# Altium schematic symbol library Schlib1.SchLib: 63 symbols (part 1 of 2)
Pins are listed as number, name and electrical type; pins without a type are passive.

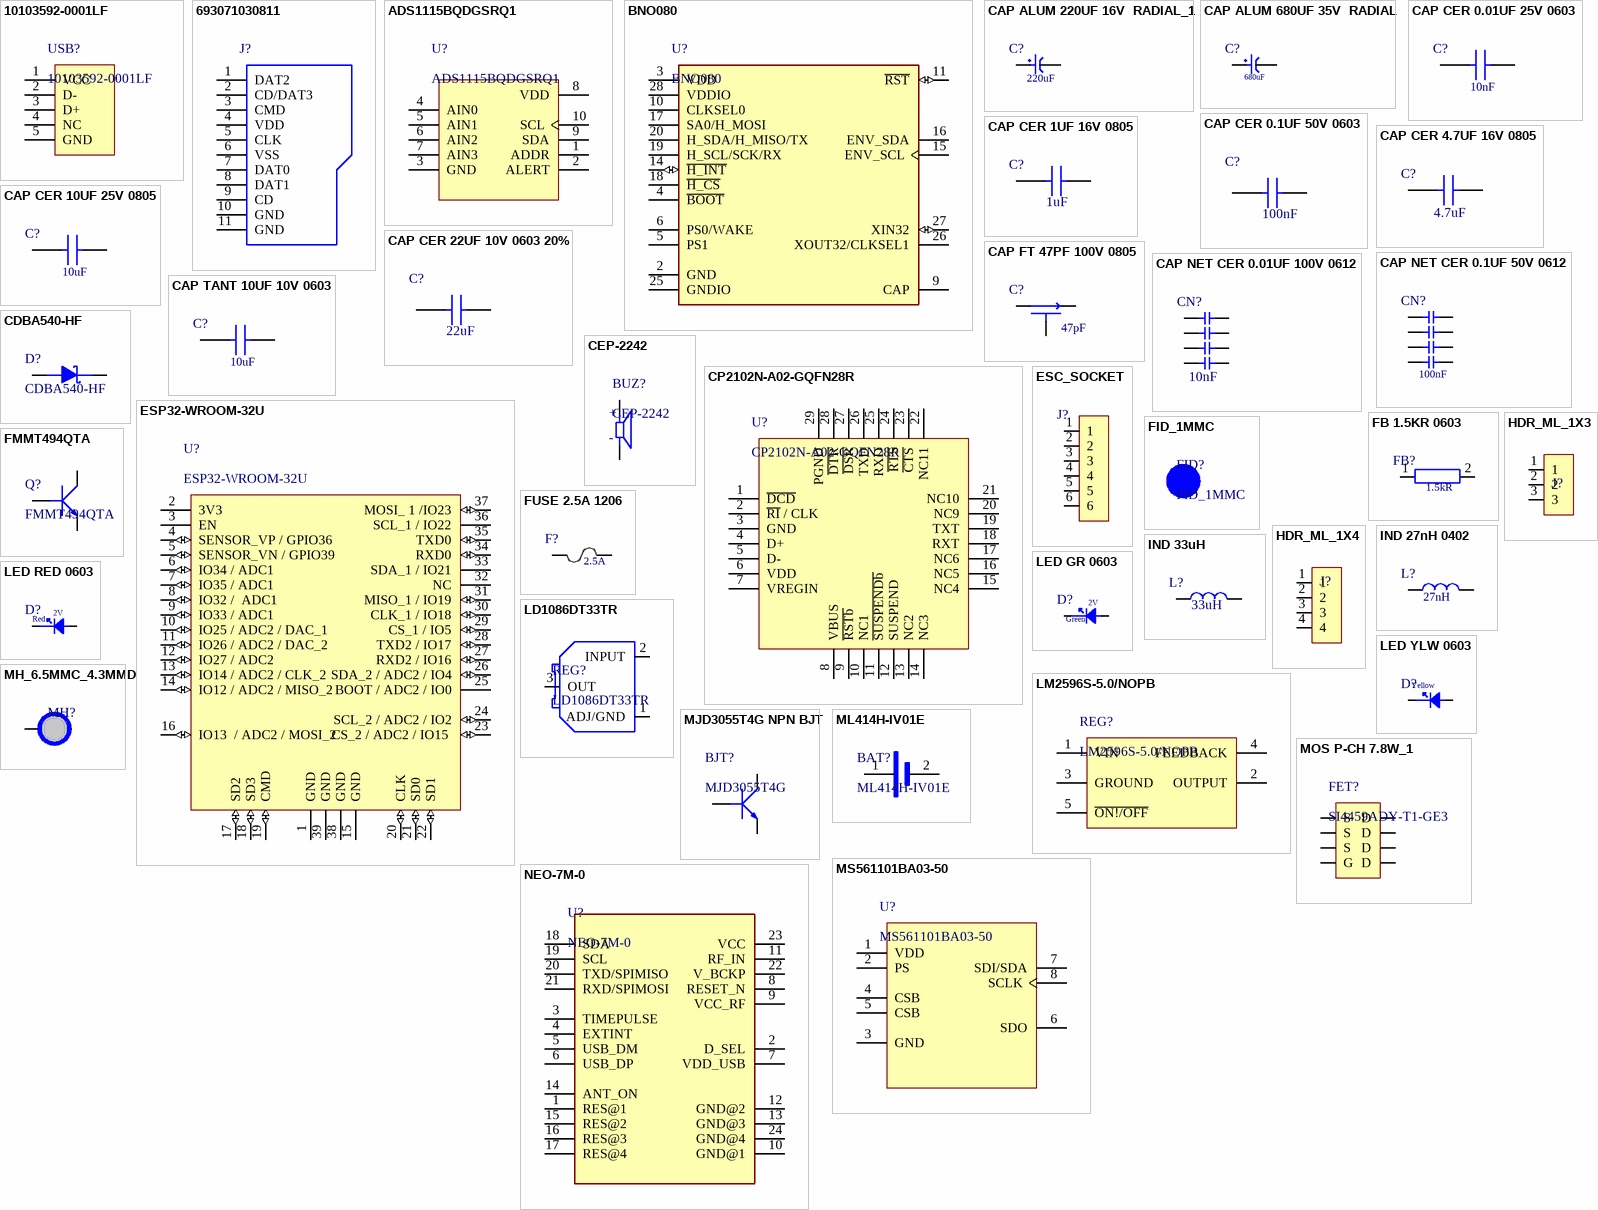
[diagram p0: symbols 10103592-0001LF to NEO-7M-0]

## 10103592-0001LF
designator USB?
CONN USB MICRO B RECPT SMT R/A; Manufacturer: ICC; Supplier 1: Digi-Key; Manufacturer Part Number: 10103592-0001LF; RoHS: No; Category: USB Connectors; Stock 1: 48303; Pricing 1: 1=0.76000, 10=0.66700, 25=0.62720, 50=0.60120, 100=0.57510, 250=0.52276, 500=0.47050 (USD); Supplier Part Number 1: 609-4048-1-ND; Weight: 0.31
footprint 10103592-0001LF
pins: 1 VCC, 2 D-, 3 D+, 4 NC, 5 GND

## 693071030811
designator J?  (value not drawn)
9 (8 + 1) Position Card Connector Secure Digital - microSD™ Surface Mount, Right Angle Gold; Manufacturer: Wurth Electronics; Supplier 1: Digi-Key; Manufacturer Part Number: 693071030811; RoHS: No; Stock 1: 1403; Pricing 1: 1=3.76000, 25=3.33400, 100=3.07700, 250=2.81900 (USD); Supplier Part Number 1: 732-693071030811CT-ND; ComponentLink1Description: Datasheet; ComponentLink1URL: https://www.we-online.com/catalog/datasheet/693071030811.pdf; Weight: 0.516
footprint 693071030811
pins: 1 DAT2, 2 CD/DAT3, 3 CMD, 4 VDD, 5 CLK, 6 VSS, 7 DAT0, 8 DAT1, 9 CD, 10 GND, 11 GND

## ADS1115BQDGSRQ1
designator U?  (no BOM)
TEXAS INSTRUMENTS - ADS1115BQDGSRQ1 . - ADC, DELTA-SIGMA, 16BIT, 860SPS, VSSOP; Interface: I2C; Number of Inputs: 4; Number of Bits: 16; Sampling Rate: 860S/s; Number of A/D Converters: 1; Supplier 1: Digi-Key; Manufacturer: Texas Instruments; Manufacturer Part Number: ADS1115BQDGSRQ1; RoHS: Yes; Category: Analog to Digital Converters (ADCs); Stock 1: 2048; Pricing 1: 1=6.74000, 10=6.05500, 25=5.72400, 100=4.96080, 250=4.70640, 500=4.22304, 1000=4.00800 (USD); Case/Package: VSSOP; Min Operating Temperature: -40°C; Max Operating Temperature: 125°C; Packaging: Cut Tape; RoHS Compliant: Yes; ComponentLink1URL: http://www.ti.com/lit/ds/symlink/ads1113-q1.pdf?src-supplier=Digi-Key; ComponentLink1Description: http://www.ti.com/lit/ds/symlink/ads1113-q1.pdf?src-supplier=Digi-Key; ComponentLink2URL: http://www.ti.com/general/docs/lit/getliterature.tsp?genericPartNumber=ADS1115-Q1&fileType=pdf&src-supplier=Farnell; ComponentLink2Description: http://www.ti.com/general/docs/lit/getliterature.tsp?genericPartNumber=ADS1115-Q1&fileType=pdf&src-supplier=Farnell; Supplier Part Number 1: 296-45221-1-ND; Weight: 0.02
footprint ADS1115BQDGSRQ1
pins: 1 ADDR (power), 2 ALERT (power), 3 GND (power), 4 AIN0 (power), 5 AIN1 (power), 6 AIN2 (power), 7 AIN3 (power), 8 VDD (power), 9 SDA (power), 10 SCL (power)

## BNO080
designator U?  (no BOM)
IMU ACCEL/GYRO/MAG I2C 32BIT; Manufacturer: Hillcrest Laboratories; Sensor Type: Accelerometer,Gyroscope,Magnetometer; Output Type: SPI,I2C; Supplier 1: Digi-Key; Manufacturer Part Number: BNO080; RoHS: No; Category: Inertial Measurement Units (IMUs); Mount: Surface Mount; Case/Package: LGA; Min Operating Temperature: -40°C; Max Operating Temperature: 85°C; Packaging: Tape and Reel; ComponentLink1URL: http://www.hillcrestlabs.com/download/5a05f340566d07c196001ec1?src-supplier=Digi-Key; ComponentLink1Description: http://www.hillcrestlabs.com/download/5a05f340566d07c196001ec1?src-supplier=Digi-Key; Supplier Part Number 1: 1888-1000-1-ND; Weight: 0.02; ComponentLink2Description: Datasheet; ComponentLink2URL: https://cdn.sparkfun.com/assets/1/3/4/5/9/BNO080_Datasheet_v1.3.pdf
footprint BNO080
pins: 2 GND (power), 3 VDD (power), 4 ~{BOOT} (power), 5 PS1 (power), 6 PS0/WAKE (power), 9 CAP (power), 10 CLKSEL0 (power), 11 ~{RST} (io), 14 ~{H_INT} (io), 15 ENV_SCL (power), 16 ENV_SDA (power), 17 SA0/H_MOSI (power), 18 ~{H_CS} (power), 19 H_SCL/SCK/RX (power), 20 H_SDA/H_MISO/TX (power), 25 GNDIO (power), 26 XOUT32/CLKSEL1 (power), 27 XIN32 (io), 28 VDDIO (power)

## CAP ALUM 220UF 16V  RADIAL_1
designator C?, comment Capacitance: 220uF  (hidden comment: ESH227M016AE3AA)
Capacitor;  Al Electrolytic;  Cap 220 uF;  Tol 20%;  Vol-Rtg 16 VDC;  Radial;  6x11 mm; Manufacturer: KEMET; Dielectric Material: Aluminium; Voltage Rating: 16V; Ripple Current: 235mA; Leakage Current: 35.2uA; Life (Hours): 2000Hour; Dissipation Factor: 18%; Lead Diameter: 0.5mm; Lead Length: 20mm; Supplier 1: Digi-Key; Manufacturer Part Number: ESH227M016AE3AA; RoHS: Yes; Category: Aluminum Electrolytic Capacitors; Stock 1: 8987; Pricing 1: 1=0.26000, 10=0.17700, 50=0.11780, 100=0.10010, 500=0.07066, 1000=0.06182, 2500=0.05888, 5000=0.05446 (USD); Mount: Through Hole,PCB; Case/Package: Radial; Min Operating Temperature: -40°C; Max Operating Temperature: 105°C; Package Quantity: 10000; Packaging: Bulk; Tolerance: 20%; Voltage Rating (DC): 16V; Termination: Radial; Voltage: 16V; Features: General Purpose; Series: ESH; Diameter: 6.3mm; Length: 11mm; Height: 11mm; Lead Pitch: 0.098inch; Height - Seated (Max): 0.492inch; RoHS Compliant: Yes; ComponentLink1URL: https://datasheet.ciiva.com/14587/70233271-14587391.pdf?src-supplier=Allied+Electronics; ComponentLink1Description: https://datasheet.ciiva.com/14587/70233271-14587391.pdf?src-supplier=Allied+Electronics; Supplier Part Number 1: 399-6566-ND; Weight: 0.6
footprint CAP ALI 6.30MM RADIAL
pins: 1, 2

## CAP ALUM 680UF 35V  RADIAL
designator C?, comment Capacitance: 680uF  (hidden comment: EEU-FR1V681)
CAP ALUM 680UF 20% 35V RADIAL; Manufacturer: Panasonic; Ripple Current: 2.18A; Impedance: 20mR; Life (Hours): 10000Hour; Lead/Base Style: Straight; Leakage Current: 3uA; Lead Diameter: 0.6mm; Supplier 1: Digi-Key; Manufacturer Part Number: EEU-FR1V681; RoHS: Yes; Category: Aluminum Electrolytic Capacitors; Stock 1: 13043; Pricing 1: 1=1.09000, 10=0.82700, 50=0.68680, 100=0.59140, 500=0.45788, 1000=0.39429, 2500=0.36885, 5000=0.34977 (USD); Mount: Through Hole; Case/Package: Radial; Number of Pins: 2; Contact Plating: Tin; Min Operating Temperature: -40°C; Max Operating Temperature: 105°C; Tolerance: 20%; Termination: Radial; Voltage Rating: 35V; Packaging: Bulk; Package Quantity: 200; Voltage Rating (DC): 35V; ESR (Equivalent Series Resistance): 20mR; Series: FR; Ripple Current (AC): 2.18A; Voltage: 35V; Construction: RADIAL; Diameter: 10mm; Length: 20mm; Height: 20mm; Lead Pitch: 5mm; Height - Seated (Max): 0.866inch; Radiation Hardening: No; REACH SVHC: Unknown; RoHS Compliant: Yes; ComponentLink1URL: https://datasheet.ciiva.com/11780/0900766b80e4e9bf-11780986.pdf?src-supplier=RSComponents; ComponentLink1Description: https://datasheet.ciiva.com/11780/0900766b80e4e9bf-11780986.pdf?src-supplier=RSComponents; ComponentLink2URL: https://datasheet.ciiva.com/11677/aba0000ce132-11677717.pdf?src-supplier=Avnet; ComponentLink2Description: https://datasheet.ciiva.com/11677/aba0000ce132-11677717.pdf?src-supplier=Avnet; ComponentLink3URL: https://datasheet.ciiva.com/14602/70257620-14602587.pdf?src-supplier=Allied+Electronics; ComponentLink3Description: https://datasheet.ciiva.com/14602/70257620-14602587.pdf?src-supplier=Allied+Electronics; ComponentLink4URL: https://datasheet.ciiva.com/30145/9aba0000ce132-30145388.pdf?src-supplier=Onlinecomponents.com; ComponentLink4Description: https://datasheet.ciiva.com/30145/9aba0000ce132-30145388.pdf?src-supplier=Onlinecomponents.com; ComponentLink5URL: https://datasheet.ciiva.com/17531/aba0000ce132-17531901.pdf?src-supplier=Avnet+Europe; ComponentLink5Description: https://datasheet.ciiva.com/17531/aba0000ce132-17531901.pdf?src-supplier=Avnet+Europe; Supplier Part Number 1: P14514-ND; Weight: 2.5
footprint CAP ALI 10MM RADIAL
pins: 1, 2

## CAP CER 0.01UF 25V 0603
designator C?, comment Capacitance: 10nF  (hidden comment: C0603C103M3RACTU)
CAP CER 10000PF 25V X7R 0603; Manufacturer: KEMET; Dielectric Material: Ceramic; Tolerance: 20%; Dissipation Factor: 3.5%; Supplier 1: Digi-Key; Manufacturer Part Number: C0603C103M3RACTU; RoHS: Yes; Category: Ceramic Capacitors; Stock 1: 64018; Pricing 1: 1=0.10000, 10=0.07100, 50=0.03860, 100=0.03160, 500=0.02254, 1000=0.01771 (USD); Mount: Surface Mount; Case/Package: 0603; Case Code (Metric): 1608; Case Code (Imperial): 0603; Min Operating Temperature: -55°C; Max Operating Temperature: 125°C; Packaging: Tape and Reel; Voltage Rating (DC): 25V; Dielectric: X7R; Package Quantity: 1; Voltage Rating: 25V; Termination: SMD/SMT; Series: C; Construction: Flat; Length: 1.6mm; Width: 0.031inch; Height: 0.8mm; Depth: 0.8mm; Thickness: 0.034inch; Lead Pitch: 0.7mm; Radiation Hardening: No; RoHS Compliant: Yes; ComponentLink1URL: https://datasheet.ciiva.com/5415/kem-c1002-x7r-smd-357932-5415863.pdf?src-supplier=Mouser; ComponentLink1Description: https://datasheet.ciiva.com/5415/kem-c1002-x7r-smd-357932-5415863.pdf?src-supplier=Mouser; ComponentLink2URL: https://datasheet.ciiva.com/49516/1564924-49516524.pdf?src-supplier=Jameco; ComponentLink2Description: https://datasheet.ciiva.com/49516/1564924-49516524.pdf?src-supplier=Jameco; Supplier Part Number 1: 399-8989-1-ND
footprint CAP CER 0603
pins: 1, 2

## CAP CER 0.1UF 50V 0603
designator C?, comment Capacitance: 100nF  (hidden comment: C0603C104K5RAC7082)
Cap Cer 0.1uF 50V 0603 10%; Manufacturer: KEMET; Dielectric Material: Ceramic; Dielectric: X7R; DesignedBy: ENES MERCAN; Supplier 1: Digi-Key; Manufacturer Part Number: C0603C104K5RAC7082; RoHS: Yes; Category: Ceramic Capacitors; Stock 1: 44787; Pricing 1: 1=0.12000, 10=0.08900, 50=0.04840, 100=0.03940, 500=0.02818, 1000=0.02214, 2500=0.02012, 5000=0.01852 (USD); Case/Package: 0603; Voltage Rating (DC): 50V; Tolerance: 10%; RoHS Compliant: Yes; Supplier Part Number 1: 399-C0603C104K5RAC7082CT-ND; Weight: 0.063
footprint CAP CER 0603
pins: 1, 2

## CAP CER 1UF 16V 0805
designator C?, comment Capacitance: 1uF  (hidden comment: CL21B105KOFNFNE)
CAP CER 1UF 16V X7R 0805; Manufacturer: Samsung; Tolerance: 10%; Supplier 1: Digi-Key; Manufacturer Part Number: CL21B105KOFNFNE; RoHS: Yes; Category: Ceramic Capacitors; Stock 1: 73789; Pricing 1: 1=0.12000, 10=0.08900, 50=0.04840, 100=0.03940, 500=0.02818, 1000=0.02214 (USD); Mount: Surface Mount; Case/Package: 0805; Case Code (Metric): 2012; Case Code (Imperial): 0805; Contact Plating: Tin; Min Operating Temperature: -55°C; Max Operating Temperature: 125°C; Package Quantity: 1; Packaging: Tape and Reel; Voltage Rating: 16V; Dielectric: X7R; Termination: Wraparound; Series: CL; Construction: Flat; Length: 0.079inch; Width: 0.049inch; Thickness: 0.053inch; RoHS Compliant: Yes; ComponentLink1URL: https://datasheet.ciiva.com/25713/cl21b105kofnfne-25713075.pdf?src-supplier=Digi-Key; ComponentLink1Description: https://datasheet.ciiva.com/25713/cl21b105kofnfne-25713075.pdf?src-supplier=Digi-Key; Supplier Part Number 1: 1276-2930-1-ND
footprint CAP CER 0805
pins: 1, 2

## CAP CER 4.7UF 16V 0805
designator C?, comment Capacitance: 4.7uF  (hidden comment: CL21B475KOFNNNE)
SAMSUNG ELECTRO-MECHANICS - CL21B475KOFNNNE - SMD Multilayer Ceramic Capacitor, 4.7 µF, 16 V, 0805 [2012 Metric], ± 10%, X7R, CL Series; Voltage Rating: 16V; Supplier 1: Digi-Key; Manufacturer: Samsung; Manufacturer Part Number: CL21B475KOFNNNE; RoHS: Yes; Category: Ceramic Capacitors; Stock 1: 815877; Pricing 1: 1=0.28000, 10=0.19400, 50=0.12960, 100=0.11020, 500=0.07778, 1000=0.06805 (USD); Mount: Surface Mount; Case/Package: 0805; Case Code (Metric): 2012; Case Code (Imperial): 0805; Min Operating Temperature: -55°C; Max Operating Temperature: 125°C; Package Quantity: 2000; Packaging: Tape and Reel; Tolerance: 10%; Dielectric: X7R; Series: CL; Construction: Flat; Voltage Rating (DC): 16V; Length: 2mm; Width: 0.049inch; Height: 1.25mm; Thickness: 0.053inch; Depth: 1.25mm; Radiation Hardening: No; Lead Free: Lead Free; RoHS Compliant: Yes; ComponentLink1URL: https://datasheet.ciiva.com/15216/getdatasheetpartid-357405-15216237.pdf?src-supplier=Verical; ComponentLink1Description: https://datasheet.ciiva.com/15216/getdatasheetpartid-357405-15216237.pdf?src-supplier=Verical; Supplier Part Number 1: 1276-2873-1-ND; Weight: 0.0064
footprint CAP CER 0805
pins: 1, 2

## CAP CER 10UF 25V 0805
designator C?, comment Capacitance: 10uF  (hidden comment: GRM21BR61E106MA73L)
MURATA - GRM21BR61E106MA73L - SMD Multilayer Ceramic Capacitor, 10 µF, 25 V, 0805 [2012 Metric], ± 20%, X5R, GRM Series; Voltage Rating: 25V; Supplier 1: Digi-Key; Manufacturer: Murata; Manufacturer Part Number: GRM21BR61E106MA73L; RoHS: Yes; Category: Ceramic Capacitors; Stock 1: 318119; Pricing 1: 1=0.26000, 10=0.17900, 50=0.11960, 100=0.10170, 500=0.07176, 1000=0.06279 (USD); Mount: Surface Mount; Case/Package: 0805; Case Code (Metric): 2012; Case Code (Imperial): 0805; Weight: 0.000335oz; Min Operating Temperature: -55°C; Max Operating Temperature: 85°C; Tolerance: 20%; Packaging: Tape and Reel; Dielectric: X5R; Termination: SMD/SMT; Resistor Type: Ceramic; Voltage Rating (DC): 25V; Package Quantity: 3000; Length: 2mm; Width: 0.049inch; Height: 1.25mm; Thickness: 0.055inch; Depth: 1.25mm; REACH SVHC: No SVHC; Lead Free: Lead Free; RoHS Compliant: Yes; ComponentLink1URL: http://www.farnell.com/datasheets/2079185.pdf?src-supplier=Farnell; ComponentLink1Description: http://www.farnell.com/datasheets/2079185.pdf?src-supplier=Farnell; ComponentLink2URL: http://www.mouser.com/ds/2/281/c02e-2905.pdf?src-supplier=Mouser; ComponentLink2Description: http://www.mouser.com/ds/2/281/c02e-2905.pdf?src-supplier=Mouser; ComponentLink3URL: http://components.arrow.com/part/dataview/0323_03061623?src-supplier=Arrow+Europe; ComponentLink3Description: http://components.arrow.com/part/dataview/0323_03061623?src-supplier=Arrow+Europe; ComponentLink4URL: https://search.murata.co.jp/Ceramy/image/img/A01X/G101/ENG/GRM21BR61E106MA73-01.pdf?src-supplier=Digi-Key; ComponentLink4Description: https://search.murata.co.jp/Ceramy/image/img/A01X/G101/ENG/GRM21BR61E106MA73-01.pdf?src-supplier=Digi-Key; ComponentLink5URL: http://www.farnell.com/datasheets/2079185.pdf?src-supplier=Element14; ComponentLink5Description: http://www.farnell.com/datasheets/2079185.pdf?src-supplier=Element14; Supplier Part Number 1: 490-10748-1-ND
footprint CAP CER 0805
pins: 1, 2

## CAP CER 22UF 10V 0603 20%
designator C?, comment Capacitance: 22uF  (hidden comment: GRM187R61A226ME15D)
CAP CER 22UF 10V X5R 0603; Manufacturer: Murata; Tolerance: 20%; DesignedBy: ENES MERCAN; Supplier 1: Digi-Key; Manufacturer Part Number: GRM187R61A226ME15D; RoHS: Yes; Category: Ceramic Capacitors; Stock 1: 622351; Pricing 1: 1=0.54000, 10=0.38100, 50=0.28840, 100=0.25120, 500=0.18608, 1000=0.15816 (USD); Mount: Surface Mount; Case/Package: 0603; Case Code (Metric): 1608; Case Code (Imperial): 0603; Min Operating Temperature: -55°C; Max Operating Temperature: 85°C; Packaging: Tape and Reel; Voltage Rating: 10V; Voltage Rating (DC): 10V; Dielectric: X5R; Length: 0.063inch; Width: 0.031inch; Thickness: 0.031inch; RoHS Compliant: Yes; ComponentLink1URL: http://search.murata.co.jp/Ceramy/image/img/A01X/G101/ENG/GRM187R61A226ME15-01.pdf?src-supplier=Digi-Key; ComponentLink1Description: http://search.murata.co.jp/Ceramy/image/img/A01X/G101/ENG/GRM187R61A226ME15-01.pdf?src-supplier=Digi-Key; Supplier Part Number 1: 490-13243-1-ND; Weight: 0.0063
footprint CAP CER 0603
pins: 1, 2

## CAP FT 47PF 100V 0805
designator C?, comment Capacitance: 47pF  (hidden comment: W2F11A4708AT1A)
CAP FEEDTHRU 47PF 100V 0805; Manufacturer: Kyocera AVX; Dielectric Material: Ceramic; Tolerance: 50%; Dielectric: C0G; Current Rating: 300mA; DC Resistance (DCR): 600mR; Insulation Resistance: 1GR; Supplier 1: Digi-Key; Manufacturer Part Number: W2F11A4708AT1A; RoHS: Yes; Category: Ceramic Capacitors; Stock 1: 19900; Pricing 1: 1=0.46000, 10=0.32200, 50=0.24380, 100=0.21240, 500=0.15730, 1000=0.13370 (USD); Mount: Surface Mount; Case/Package: 0805; Number of Pins: 4; Case Code (Metric): 2012; Case Code (Imperial): 0805; Min Operating Temperature: -55°C; Max Operating Temperature: 125°C; Voltage Rating: 100V; Package Quantity: 4000; Packaging: Tape and Reel; Voltage Rating (DC): 100V; Voltage: 100V; Current: 300mA; Termination: SMD/SMT; Series: W2F; Construction: Flat; Length: 2.01mm; Width: 0.049inch; Height: 0.045inch; Depth: 1.25mm; Radiation Hardening: No; Lead Free: Lead Free; RoHS Compliant: Yes; ComponentLink1URL: https://datasheet.ciiva.com/1011/w2fw3f-1011555.pdf?src-supplier=Digi-Key; ComponentLink1Description: https://datasheet.ciiva.com/1011/w2fw3f-1011555.pdf?src-supplier=Digi-Key; ComponentLink2URL: https://datasheet.ciiva.com/17490/w2fw3f-17490408.pdf?src-supplier=Avnet+Europe; ComponentLink2Description: https://datasheet.ciiva.com/17490/w2fw3f-17490408.pdf?src-supplier=Avnet+Europe; ComponentLink3URL: https://datasheet.ciiva.com/4932/w2fw3f-4932074.pdf?src-supplier=Mouser; ComponentLink3Description: https://datasheet.ciiva.com/4932/w2fw3f-4932074.pdf?src-supplier=Mouser; ComponentLink4URL: https://datasheet.ciiva.com/11516/w2fw3f-11516952.pdf?src-supplier=Avnet; ComponentLink4Description: https://datasheet.ciiva.com/11516/w2fw3f-11516952.pdf?src-supplier=Avnet; Supplier Part Number 1: 478-12987-1-ND
footprint CAP FEEDTRU 0805
pins: 1, 2, 3

## CAP NET CER 0.1UF 50V 0612
designator CN?, comment Capacitance: 100nF  (hidden comment: CA064C104M4RAC7800)
Cap Ceramic Array 0.1uF 16V X7R 10% 0612 SMD 4 Capacitor 125C Plastic T/R; Manufacturer: KEMET; Number of Terminals/Pins: 8; Number of Capacitors: 4; Circuit Type: Isolated; Tolerance: 20%; Supplier 1: Digi-Key; Manufacturer Part Number: CA064C104M4RAC7800; RoHS: Yes; Category: Uncategorized; Stock 1: 44013; Pricing 1: 1=0.40000, 10=0.27500, 50=0.19240, 100=0.16500, 500=0.12376, 1000=0.10450 (USD); Mount: Surface Mount; Case/Package: 0612; Case Code (Imperial): 0612; Dielectric Material: Ceramic; Case Code (Metric): 1632; Min Operating Temperature: -55°C; Max Operating Temperature: 125°C; Resistor Type: Ceramic; Dielectric: X7R; Package Quantity: 1; Voltage Rating: 16V; Packaging: Tape and Reel; Length: 0.063inch; Width: 0.126inch; Height - Seated (Max): 0.035inch; Depth: 3.2mm; Terminal Pitch: 0.8mm; ComponentLink1URL: https://media.digikey.com/pdf/Data%20Sheets/Kemet%20PDFs/X7R_Dielectric_10-200V_Rev_Nov2013.pdf?src-supplier=Digi-Key; ComponentLink1Description: https://media.digikey.com/pdf/Data%20Sheets/Kemet%20PDFs/X7R_Dielectric_10-200V_Rev_Nov2013.pdf?src-supplier=Digi-Key; ComponentLink2URL: http://components.arrow.com/part/dataview/0323_06931648?src-supplier=Arrow+Europe; ComponentLink2Description: http://components.arrow.com/part/dataview/0323_06931648?src-supplier=Arrow+Europe; ComponentLink3URL: http://www.kemet.com/docfinder?Partnumber=CA064C104M4RAC7800&src-supplier=Digi-Key; ComponentLink3Description: http://www.kemet.com/docfinder?Partnumber=CA064C104M4RAC7800&src-supplier=Digi-Key; Supplier Part Number 1: 399-10098-1-ND
footprint CAP NET 0612
pins: 1, 2, 3, 4, 5, 6, 7, 8

## CAP NET CER 0.01UF 100V 0612
designator CN?, comment Capacitance: 10nF  (hidden comment: CA064X103K1RACAUTO)
CAP ARRAY 10000PF 100V X7R 0612; Manufacturer: KEMET; Dielectric Material: Ceramic; Number of Capacitors: 4; Circuit Type: Isolated; Tolerance: 10%; Supplier 1: Digi-Key; Manufacturer Part Number: CA064X103K1RACAUTO; RoHS: Yes; Category: Capacitor Arrays; Stock 1: 32730; Pricing 1: 1=0.51000, 10=0.35400, 50=0.24800, 100=0.21250, 500=0.15940, 1000=0.13460 (USD); Mount: Surface Mount; Case/Package: 0612; Case Code (Metric): 1632; Case Code (Imperial): 0612; Min Operating Temperature: -55°C; Max Operating Temperature: 125°C; Packaging: Cut Tape; Voltage Rating: 100V; Number of Elements: 4; Voltage Rating (DC): 100V; Number of Circuits: 4; Length: 0.063inch; Width: 0.126inch; Height - Seated (Max): 0.035inch; Ratings: AEC-Q200; REACH SVHC: No SVHC; RoHS Compliant: Yes; ComponentLink1URL: http://www.farnell.com/datasheets/1996723.pdf?src-supplier=Farnell; ComponentLink1Description: http://www.farnell.com/datasheets/1996723.pdf?src-supplier=Farnell; ComponentLink2URL: http://www.farnell.com/datasheets/1996723.pdf?src-supplier=Element14; ComponentLink2Description: http://www.farnell.com/datasheets/1996723.pdf?src-supplier=Element14; ComponentLink3URL: http://www.kemet.com/docfinder?Partnumber=CA064X103K1RACAUTO&src-supplier=Digi-Key; ComponentLink3Description: http://www.kemet.com/docfinder?Partnumber=CA064X103K1RACAUTO&src-supplier=Digi-Key; ComponentLink4URL: https://api.kemet.com/component-edge/download/datasheet/CA064X103K1RACAUTO.pdf?src-supplier=Digi-Key; ComponentLink4Description: https://api.kemet.com/component-edge/download/datasheet/CA064X103K1RACAUTO.pdf?src-supplier=Digi-Key; Supplier Part Number 1: 399-12383-1-ND
footprint CAP NET 0612
pins: 1, 2, 3, 4, 5, 6, 7, 8

## CAP TANT 10UF 10V 0603
designator C?, comment Capacitance: 10uF  (hidden comment: F381A106MMA)
Cap Tant Solid 10uF 10V M CASE 20% (1.6 X 0.85 X 0.8mm) SMD 1608-09 0.5 Ohm 105°C T/R; Manufacturer: Kyocera AVX; ESR (Equivalent Series Resistance): 500mR; Life (Hours): 1000Hour; Dissipation Factor: 15%; Leakage Current: 10uA; Supplier 1: Digi-Key; Manufacturer Part Number: F381A106MMA; RoHS: Yes; Category: Tantalum Capacitors; Stock 1: 20000; Pricing 1: 1=0.68000, 10=0.50200, 50=0.40160, 100=0.34430, 500=0.27254, 1000=0.22950 (USD); Mount: Surface Mount; Case/Package: 0603; Case Code (Metric): 1608; Case Code (Imperial): 0603; Weight: 0.0063; Min Operating Temperature: -55°C; Max Operating Temperature: 105°C; Tolerance: 20%; Voltage Rating: 10V; Packaging: Tape and Reel; Features: General Purpose; Termination: SMD/SMT; Package Quantity: 4000; Voltage Rating (DC): 10V; Length: 1.6mm; Width: 0.033inch; Height: 0.8mm; Height - Seated (Max): 0.035inch; Depth: 0.85mm; Radiation Hardening: No; RoHS Compliant: Yes; REACH SVHC: No SVHC; ComponentLink1URL: https://datasheet.ciiva.com/48510/f38-48510901.pdf?src-supplier=Avnet; ComponentLink1Description: https://datasheet.ciiva.com/48510/f38-48510901.pdf?src-supplier=Avnet; ComponentLink2URL: https://datasheet.ciiva.com/46417/1805432-46417517.pdf?src-supplier=Element14; ComponentLink2Description: https://datasheet.ciiva.com/46417/1805432-46417517.pdf?src-supplier=Element14; ComponentLink3URL: https://datasheet.ciiva.com/46417/1805432-46417518.pdf?src-supplier=Element14; ComponentLink3Description: https://datasheet.ciiva.com/46417/1805432-46417518.pdf?src-supplier=Element14; Supplier Part Number 1: 478-9527-1-ND
footprint CAP CER 0603
pins: 1, 2

## CDBA540-HF
designator D?
DIODE SCHOTTKY 40V 5A DO214AC; Manufacturer: Comchip; Supplier 1: Digi-Key; Manufacturer Part Number: CDBA540-HF; RoHS: Yes; Category: Rectifier Diodes; Stock 1: 101065; Pricing 1: 1=0.51000, 10=0.41000, 100=0.27930, 500=0.20948, 1000=0.15711, 2000=0.14402 (USD); Mount: Surface Mount; Packaging: Tape and Reel; Average Rectified Current: 5A; Max Reverse Voltage (DC): 40V; Series: -; RoHS Compliant: Yes; ComponentLink1URL: http://www.mouser.com/ds/2/80/CDBA520-HF%20Thru134737.%20CDBA5200-HF%20RevB-221146.pdf?src-supplier=Mouser; ComponentLink1Description: http://www.mouser.com/ds/2/80/CDBA520-HF%20Thru134737.%20CDBA5200-HF%20RevB-221146.pdf?src-supplier=Mouser; ComponentLink2URL: http://www.comchiptech.com/admin/files/product/CDBA540-HF%20Thru504741.%20CDBA5200-HF%20RevC.pdf?src-supplier=Digi-Key; ComponentLink2Description: http://www.comchiptech.com/admin/files/product/CDBA540-HF%20Thru504741.%20CDBA5200-HF%20RevC.pdf?src-supplier=Digi-Key; Supplier Part Number 1: 641-1707-1-ND
footprint DO-214AC
pins: A, C

## CEP-2242
designator BUZ?
Audio Indicators & Alerts Buzzers; Manufacturer: CUI; Frequency: 4.1kHz; Voltage Rating: 12V; Operating Supply Current: 7mA; Washable: Yes; Supplier 1: Digi-Key; Manufacturer Part Number: CEP-2242; RoHS: Yes; Category: Audio Products; Stock 1: 76385; Pricing 1: 1=2.50000, 10=2.07400, 25=1.91480, 40=1.79900, 100=1.68760, 500=1.46300 (USD); Mount: Through Hole; Case/Package: Radial; Min Operating Temperature: -20°C; Max Operating Temperature: 70°C; Packaging: Bulk; Termination: PC Pins; Self Resonant Frequency: 4.1kHz; Diameter: 13.7mm; Height: 8.1mm; Lead Free: Lead Free; ComponentLink1URL: http://www.mouser.com/ds/2/670/cep-2242-515895.pdf?src-supplier=Mouser; ComponentLink1Description: http://www.mouser.com/ds/2/670/cep-2242-515895.pdf?src-supplier=Mouser; ComponentLink2URL: https://www.cui.com/product/resource/digikeypdf/cep-2242.pdf?src-supplier=Digi-Key; ComponentLink2Description: https://www.cui.com/product/resource/digikeypdf/cep-2242.pdf?src-supplier=Digi-Key; Supplier Part Number 1: 102-1115-ND; Weight: 0.0063
footprint CEP-2242
pins: N, P
text: +; -

## CP2102N-A02-GQFN28R
designator U?  (no BOM)
Full Speed USB to UART Bridge USB 2.0 3.3V T/R Automotive 28-Pin QFN EP; Manufacturer: Silicon Labs; Supplier 1: Digi-Key; Manufacturer Part Number: CP2102N-A02-GQFN28R; RoHS: Yes; Stock 1: 843; Pricing 1: 1=1.62000 (USD); Supplier Part Number 1: 336-5890-1-ND; ComponentLink1Description: Datasheet; ComponentLink1URL: https://www.silabs.com/documents/public/data-sheets/cp2102n-datasheet.pdf
footprint CP2102N-A02-GQFN28R
pins: 1 ~{DCD}, 2 ~{RI} / CLK, 3 GND, 4 D+, 5 D-, 6 VDD, 7 VREGIN, 8 VBUS, 9 ~{RSTb}, 10 NC1, 11 ~{SUSPENDb}, 12 SUSPEND, 13 NC2, 14 NC3, 15 NC4, 16 NC5, 17 NC6, 18 RXT, 19 TXT, 20 NC9, 21 NC10, 22 NC11, 23 ~{CTS}, 24 ~{RTS}, 25 RXD, 26 TXD, 27 ~{DSR}, 28 ~{DTR}, 29 PGND

## ESC_SOCKET
designator J?  (value not drawn)  (no BOM)
1X6 PAD - NO BOM
footprint ESC_SOCKET
pins: 1, 2, 3, 4, 5, 6

## ESP32-WROOM-32U
designator U?
Manufacturer: Espressif Systems; Manufacturer Part Number: ESP32-WROOM-32U(M113DH3200UH3Q0); DesignedBy: ENES MERCAN; Sensitivity: -98dBm; Power Output: 20.5dBm; Antenna Type: Antenna Not Included, U.FL; Memory Size: 448kB ROM, 536kB SRAM; Voltage: 2.7V ~ 3.6V; Data Rate: 150Mbps; Frequency: 2.4GHz ~ 2.5GHz; Supplier 1: Digi-Key; RoHS: No; Stock 1: 13000; Pricing 1: 650=4.08000 (USD); Supplier Part Number 1: 1965-ESP32-WROOM-32U(4MB)TR-ND; ComponentLink1Description: Datasheet; ComponentLink1URL: https://www.espressif.com/sites/default/files/documentation/esp32-wroom-32d_esp32-wroom-32u_datasheet_en.pdf; Operating Temperature: -40°C ~ 85°C; Package / Case: 38-SMD Module; Weight: 0.8; ComponentLink2Description: Guideline; ComponentLink2URL: https://diyprojects.io/esp32-gpio-pins-and-associated-functions-i-o-pwm-rtc-i2c-spi-adc-dac/#spi
footprint ESP32-WROOM-32U
pins: 1 GND (power), 2 3V3 (power), 3 EN, 4 SENSOR_VP / GPIO36 (io), 5 SENSOR_VN / GPIO39 (io), 6 IO34 / ADC1 (io), 7 IO35 / ADC1 (io), 8 IO32 /  ADC1 (io), 9 IO33 / ADC1 (io), 10 IO25 / ADC2 / DAC_1 (io), 11 IO26 / ADC2 / DAC_2 (io), 12 IO27 / ADC2 (io), 13 IO14 / ADC2 / CLK_2 (io), 14 IO12 / ADC2 / MISO_2 (io), 15 GND (power), 16 IO13  / ADC2 / MOSI_2 (io), 17 SD2 (io), 18 SD3 (io), 19 CMD (io), 20 CLK (io), 21 SD0 (io), 22 SD1 (io), 23 CS_2 / ADC2 / IO15  (io), 24 SCL_2 / ADC2 / IO2 (io), 25 BOOT / ADC2 / IO0 (power), 26 SDA_2 / ADC2 / IO4 (io), 27 RXD2 / IO16 (io), 28 TXD2 / IO17 (io), 29 CS_1 / IO5 (io), 30 CLK_1 / IO18 (io), 31 MISO_1 / IO19 (io), 32 NC, 33 SDA_1 / IO21 (power), 34 RXD0 (io), 35 TXD0 (io), 36 SCL_1 / IO22 (power), 37 MOSI_ 1 /IO23 (io), 38 GND (power), 39 GND (power)

## FB 1.5KR 0603
designator FB?, comment Impedance: 1.5kR  (hidden comment: MMZ2012Y152BTD25)
FERRITE BEAD 1.5 KOHM 0805 1LN; Manufacturer: TDK; Number of Lines: 1; Max Current Rating: 500mA; DC Resistance (DCR): 400mR; Tolerance: 25%; Test Frequency: 100MHz; Supplier 1: Digi-Key; Manufacturer Part Number: MMZ2012Y152BTD25; RoHS: Yes; Category: Ferrite Beads and Chips; Stock 1: 2232; Pricing 1: 1=0.11000, 10=0.09200, 25=0.08280, 50=0.06080, 100=0.05240, 250=0.04140, 500=0.03496, 1000=0.02944 (USD); Mount: Surface Mount; Case/Package: 0805; Case Code (Metric): 2012; Case Code (Imperial): 0805; Weight: 0.008; Min Operating Temperature: -55°C; Max Operating Temperature: 125°C; Package Quantity: 4000; Packaging: Tape and Reel; Termination: SMD/SMT; Max DC Current: 500mA; Length: 0.079inch; Width: 0.049inch; Height: 0.041inch; Ratings: AEC-Q200; RoHS Compliant: Yes; ComponentLink1URL: http://www.mouser.com/ds/2/400/beads_automotive_signal_mmz_en-469244.pdf?src-supplier=Mouser; ComponentLink1Description: http://www.mouser.com/ds/2/400/beads_automotive_signal_mmz_en-469244.pdf?src-supplier=Mouser; ComponentLink2URL: https://media.digikey.com/pdf/Data%20Sheets/TDK%20PDFs/MMZ_Series_Br.pdf?src-supplier=Digi-Key; ComponentLink2Description: https://media.digikey.com/pdf/Data%20Sheets/TDK%20PDFs/MMZ_Series_Br.pdf?src-supplier=Digi-Key; ComponentLink3URL: https://product.tdk.com/info/en/catalog/datasheets/beads_automotive_signal_mmz2012_en.pdf?src-supplier=Digi-Key; ComponentLink3Description: https://product.tdk.com/info/en/catalog/datasheets/beads_automotive_signal_mmz2012_en.pdf?src-supplier=Digi-Key; Supplier Part Number 1: 445-172871-1-ND
footprint Ferrite Bead 0603
pins: 1, 2

## FID_1MMC
designator FID?  (no BOM)
FID 40mil Daimeter, 120mıl Mask
footprint FID_40X120D

## FMMT494QTA
designator Q?
NPN TRANSISTOR120V SOT23; Manufacturer: Diodes; Max Collector Current: 1A; Collector Emitter Breakdown Voltage: 120V; Collector Emitter Voltage (VCEO): 300mV; Max Power Dissipation: 500mW; Transition Frequency: 100MHz; Supplier 1: Mouser; Manufacturer Part Number: FMMT494QTA; RoHS: Yes; Mount: Surface Mount; Case/Package: TO-236-3; Min Operating Temperature: -55°C; Max Operating Temperature: 150°C; Packaging: Cut Tape; Max Breakdown Voltage: 120V; RoHS Compliant: Yes; ComponentLink1URL: https://www.diodes.com/assets/Datasheets/FMMT494Q.pdf?src-supplier=Digi-Key; ComponentLink1Description: https://www.diodes.com/assets/Datasheets/FMMT494Q.pdf?src-supplier=Digi-Key; Supplier Part Number 1: 621-FMMT494QTA
footprint SOT23-3
pins: B, C, E

## FUSE 2.5A 1206
designator F?, comment Current Rating: 2.5A  (hidden comment: SF-1206FP250-2)
Manufacturer: Bourns; Fuse Type: Board Mount (Cartridge Style Excluded); Voltage Rating (DC): 32V; Approvals: UL; Supplier 1: Digi-Key; Manufacturer Part Number: SF-1206FP250-2; RoHS: Yes; Stock 1: 19947; Pricing 1: 1=0.84000, 5=0.81400, 10=0.76100, 50=0.63000, 100=0.52500, 250=0.51188, 500=0.43312, 1000=0.38062 (USD); Mount: Surface Mount; Case/Package: 1206; Case Code (Imperial): 1206; Case Code (Metric): 3216; Min Operating Temperature: -20°C; Max Operating Temperature: 105°C; Packaging: Tape and Reel; ComponentLink1URL: https://www.bourns.com/docs/product-datasheets/sf-1206fp.pdf?src-supplier=Digi-Key; ComponentLink1Description: https://www.bourns.com/docs/product-datasheets/sf-1206fp.pdf?src-supplier=Digi-Key; Supplier Part Number 1: SF-1206FP250-2CT-ND
footprint RES 1206
pins: 1, 2

## HDR_ML_1X3
designator J?, comment M20-9990345  (value not drawn)
HARWIN - M20-9990345 - Board-To-Board Connector, Straight, 2.54 mm, 3 Contacts, Header, M20 Series, Through Hole, 1 Rows; Number of Contacts: 3; Current Rating: 3A; Contact Resistance: 25mR; Voltage Rating (AC): 750V; Insulation Resistance: 10GR; Connector Type: Male Pin; Pitch: 2.54mm; Supplier 1: Digi-Key; Manufacturer: Harwin; Manufacturer Part Number: M20-9990345; RoHS: Yes; Category: Headers and Wire Housings; Stock 1: 50550; Pricing 1: 1=0.19000, 10=0.17600, 100=0.10840, 500=0.08968, 1000=0.07848, 5000=0.06727, 10000=0.06540 (USD); Mount: Through Hole; Case/Package: SIL; Contact Plating: Gold; Contact Material: Brass,Bronze; Color: Black; Weight: 0.18; Housing Color: Black; Housing Material: Nylon; Min Operating Temperature: -40°C; Max Operating Temperature: 105°C; Number of Rows: 1; Termination: Solder; Package Quantity: 1000; Packaging: Bulk; Max Current Rating: 3A; Number of Positions: 3; Orientation: Straight; Series: M20; Contact Type: Male Pin; Length: 7.62mm; Width: 0.25inch; Height: 0.125inch; Contact Mating Length: 0.24inch; Depth: 2.54mm; Radiation Hardening: No; REACH SVHC: No SVHC; RoHS Compliant: Yes; ComponentLink1URL: https://datasheet.ciiva.com/11747/0900766b80da602d-11747505.pdf?src-supplier=RSComponents; ComponentLink1Description: https://datasheet.ciiva.com/11747/0900766b80da602d-11747505.pdf?src-supplier=RSComponents; ComponentLink2URL: https://datasheet.ciiva.com/10151/m20-999-10151334.pdf?src-supplier=Avnet; ComponentLink2Description: https://datasheet.ciiva.com/10151/m20-999-10151334.pdf?src-supplier=Avnet; ComponentLink3URL: https://datasheet.ciiva.com/16657/m20-999-16657084.pdf?src-supplier=Avnet+Europe; ComponentLink3Description: https://datasheet.ciiva.com/16657/m20-999-16657084.pdf?src-supplier=Avnet+Europe; ComponentLink4URL: https://datasheet.ciiva.com/5160/m20-999-351179-5160492.pdf?src-supplier=Mouser; ComponentLink4Description: https://datasheet.ciiva.com/5160/m20-999-351179-5160492.pdf?src-supplier=Mouser; Supplier Part Number 1: 952-2263-ND
footprint HDR_ML_1X3
pins: 1, 2, 3

## HDR_ML_1X4
designator J?, comment M20-9730445  (value not drawn)
Headers & Wire Housings 04 SIL VERTICAL PIN HEADER GOLD HT; Manufacturer: Harwin; Number of Contacts: 4; Max Current Rating: 3A; Contact Resistance: 25mR; Voltage Rating: 750V; Gender: Male; Connector Type: Male Pin; Pitch: 2.54mm; Supplier 1: Digi-Key; Manufacturer Part Number: M20-9730445; RoHS: Yes; Category: Headers and Wire Housings; Stock 1: 2723; Pricing 1: 1=0.25000, 10=0.23900, 100=0.16540, 500=0.13998, 1000=0.11453, 5000=0.10181, 10000=0.09226 (USD); Mount: Through Hole; Case/Package: SIL; Contact Plating: Gold; Contact Material: Brass; Color: Black; Housing Color: Black; Housing Material: Nylon; Min Operating Temperature: -40°C; Max Operating Temperature: 105°C; Number of Rows: 1; Termination: Solder; Current Rating: 3A; Package Quantity: 1000; Packaging: Bulk; Number of Positions: 4; Orientation: Straight; Series: M20; Contact Type: Male Pin; Length: 10.16mm; Contact Mating Length: 0.276inch; Depth: 2.54mm; Radiation Hardening: No; RoHS Compliant: Yes; ComponentLink1URL: https://datasheet.ciiva.com/16733/m20-973-16733567.pdf?src-supplier=Avnet+Europe; ComponentLink1Description: https://datasheet.ciiva.com/16733/m20-973-16733567.pdf?src-supplier=Avnet+Europe; Supplier Part Number 1: 952-3273-ND; Weight: 0.244
footprint HDR_ML_1X4
pins: 1, 2, 3, 4

## IND 27nH 0402
designator L?, comment Inductance: 27nH  (hidden comment: LQG15HS27NJ02D)
Inductor RF Chip Multi-Layer 27nH 5% 100MHz 8Q-Factor Air 300mA 460mOhm DCR 0402 Paper T/R; Manufacturer: Murata; DC Resistance (DCR): 460mR; Shielding: Unshielded; Self Resonant Frequency: 1.7GHz; Q Factor: 8; Supplier 1: Digi-Key; Manufacturer Part Number: LQG15HS27NJ02D; RoHS: Yes; Category: Fixed Inductors; Stock 1: 103641; Pricing 1: 1=0.10000, 10=0.05500, 25=0.04920, 50=0.04180, 100=0.03690, 250=0.03380, 500=0.03072, 1000=0.02580, 2500=0.02211 (USD); Mount: Surface Mount; Case/Package: 0402; Core Material: Air; Case Code (Metric): 1005; Case Code (Imperial): 0402; Min Operating Temperature: -55°C; Max Operating Temperature: 125°C; Tolerance: 5%; Max DC Current: 300mA; Package Quantity: 10000; Current Rating: 300mA; Packaging: Tape and Reel; Inductance Tolerance: 5%; Test Frequency: 100MHz; Termination: SMD/SMT; DC Current: 300mA; Series: LQG15HS; Rated Current-Max: 300mA; Length: 1mm; Width: 0.02inch; Height: 0.5mm; Height - Seated (Max): 0.022inch; Depth: 0.55mm; REACH SVHC: No SVHC; Military Standard: Not; Lead Free: Lead Free; RoHS Compliant: Yes; ComponentLink1URL: https://datasheet.ciiva.com/11799/0900766b80f10809-11799242.pdf?src-supplier=RSComponents; ComponentLink1Description: https://datasheet.ciiva.com/11799/0900766b80f10809-11799242.pdf?src-supplier=RSComponents; ComponentLink2URL: https://datasheet.ciiva.com/1038/l0075s0083lqg15hs-1038145.pdf?src-supplier=Digi-Key; ComponentLink2Description: https://datasheet.ciiva.com/1038/l0075s0083lqg15hs-1038145.pdf?src-supplier=Digi-Key; ComponentLink3URL: https://datasheet.ciiva.com/1038/l0075s0083lqg15hs-1038146.pdf?src-supplier=Digi-Key; ComponentLink3Description: https://datasheet.ciiva.com/1038/l0075s0083lqg15hs-1038146.pdf?src-supplier=Digi-Key; ComponentLink4URL: https://datasheet.ciiva.com/1038/l0075s0083lqg15hs-1038147.pdf?src-supplier=Digi-Key; ComponentLink4Description: https://datasheet.ciiva.com/1038/l0075s0083lqg15hs-1038147.pdf?src-supplier=Digi-Key; ComponentLink5URL: https://datasheet.ciiva.com/3082/l0075s0083lqg15hs-3082179.pdf?src-supplier=Avnet; ComponentLink5Description: https://datasheet.ciiva.com/3082/l0075s0083lqg15hs-3082179.pdf?src-supplier=Avnet; ComponentLink6URL: https://datasheet.ciiva.com/16360/l0075s0083lqg15hs-16360143.pdf?src-supplier=Future+Electronics; ComponentLink6Description: https://datasheet.ciiva.com/16360/l0075s0083lqg15hs-16360143.pdf?src-supplier=Future+Electronics; ComponentLink7URL: https://datasheet.ciiva.com/17247/l0075s0083lqg15hs-17247119.pdf?src-supplier=Avnet+Europe; ComponentLink7Description: https://datasheet.ciiva.com/17247/l0075s0083lqg15hs-17247119.pdf?src-supplier=Avnet+Europe; Supplier Part Number 1: 490-2628-6-ND
footprint IND 0402
pins: 1, 2

## IND 33uH
designator L?, comment Inductance: 33uH  (hidden comment: SRR1280-330M)
33uH 20% 100KHz Ind Power Shielded Wirewound  28Q-Factor Ferrite 3.5A T/R; Manufacturer: Bourns; Material: Steel; DC Resistance (DCR): 57mR; Saturation Current: 3.3A; Self Resonant Frequency: 9.5MHz; Q Factor: 28; Supplier 1: Digi-Key; Manufacturer Part Number: SRR1280-330M; RoHS: Yes; Category: Fixed Inductors; Stock 1: 7352; Pricing 1: 1=1.25000, 10=1.16400, 25=1.07400, 50=0.89520, 100=0.84140 (USD); Mount: Surface Mount; Case/Package: Nonstandard; Number of Pins: 2; Core Material: Ferrite; Min Operating Temperature: -40°C; Max Operating Temperature: 125°C; Tolerance: 20%; Max DC Current: 3.5A; Package Quantity: 400; Current Rating: 3.5A; Shielding: Shielded; Packaging: Tape and Reel; Resistor Type: Wirewound; Test Frequency: 100kHz; Series: SRR1280; Inductance Tolerance: 20%; Resistance: 57MR; Termination: SMD/SMT; RMS Current (Irms): 3.5A; Frequency: 9.5MHz; DC Current: 3.5A; Sample Rate (Hz): 100kHz; Length: 12.5mm; Width: 12.5mm; Height: 7.5mm; Height - Seated (Max): 0.315inch; Depth: 12.8mm; Radiation Hardening: No; RoHS Compliant: Yes; REACH SVHC: No SVHC; Military Standard: Not; ComponentLink1URL: https://datasheet.ciiva.com/11799/0900766b80ddd400-11799870.pdf?src-supplier=RSComponents; ComponentLink1Description: https://datasheet.ciiva.com/11799/0900766b80ddd400-11799870.pdf?src-supplier=RSComponents; ComponentLink2URL: https://datasheet.ciiva.com/17112/70277071-17112985.pdf?src-supplier=Allied+Electronics; ComponentLink2Description: https://datasheet.ciiva.com/17112/70277071-17112985.pdf?src-supplier=Allied+Electronics; ComponentLink3URL: https://datasheet.ciiva.com/8512/srr1280-8512893.pdf?src-supplier=Avnet; ComponentLink3Description: https://datasheet.ciiva.com/8512/srr1280-8512893.pdf?src-supplier=Avnet; ComponentLink4URL: https://datasheet.ciiva.com/6696/srr1280-6696735.pdf?src-supplier=Digi-Key; ComponentLink4Description: https://datasheet.ciiva.com/6696/srr1280-6696735.pdf?src-supplier=Digi-Key; ComponentLink5URL: https://datasheet.ciiva.com/17285/srr1280-17285215.pdf?src-supplier=Avnet+Europe; ComponentLink5Description: https://datasheet.ciiva.com/17285/srr1280-17285215.pdf?src-supplier=Avnet+Europe; ComponentLink6URL: https://datasheet.ciiva.com/30162/srr1280-30162751.pdf?src-supplier=Onlinecomponents.com; ComponentLink6Description: https://datasheet.ciiva.com/30162/srr1280-30162751.pdf?src-supplier=Onlinecomponents.com; ComponentLink7URL: https://datasheet.ciiva.com/48488/srr1280-48488287.pdf?src-supplier=Avnet; ComponentLink7Description: https://datasheet.ciiva.com/48488/srr1280-48488287.pdf?src-supplier=Avnet; Supplier Part Number 1: SRR1280-330MCT-ND; Weight: 4.2
footprint SRR1280-330M
pins: 1, 2

## LD1086DT33TR
designator REG?
STMICROELECTRONICS - LD1086DT33TR - Fixed LDO Voltage Regulator, 6.3V to 30V, 1.3V Dropout, 3.3Vout, 1.5Aout, TO-252-3; Output Voltage: 3.3V; Number of Outputs: 1; Max Output Current: 1.5A; Polarity: Positive; Quiescent Current: 10mA; Accuracy: 1%; Input Bias Current: 5mA; Supplier 1: Digi-Key; Manufacturer: STMicroelectronics; Manufacturer Part Number: LD1086DT33TR; RoHS: Yes; Category: Voltage Regulators - Linear; Stock 1: 5607; Pricing 1: 1=1.31000, 10=1.17400, 25=1.11440, 100=0.91550, 250=0.85576, 500=0.75626, 1000=0.65712 (USD); Mount: Surface Mount; Case/Package: DPAK; Number of Pins: 3; Weight: 0.01lb; Min Operating Temperature: -40°C; Max Operating Temperature: 125°C; Packaging: Tape and Reel; Max Input Voltage: 30V; Dropout Voltage: 1.3V; Output Current: 1.5A; Package Quantity: 1; Output Type: Fixed; Min Input Voltage: 6.3V; Nominal Output Voltage: 3.3V; Number of Regulators: 1; Min Output Voltage: 3.3V; Output Voltage Accuracy: 1%; Series: -; Length: 6.6mm; Width: 6.2mm; Height: 2.4mm; Radiation Hardening: No; REACH SVHC: No SVHC; Lead Free: Lead Free; RoHS Compliant: Yes; ComponentLink1URL: https://datasheet.ciiva.com/16593/cd00001884-16593328.pdf?src-supplier=Avnet+Europe; ComponentLink1Description: https://datasheet.ciiva.com/16593/cd00001884-16593328.pdf?src-supplier=Avnet+Europe; ComponentLink2URL: https://datasheet.ciiva.com/2043/cd00001884-2043960.pdf?src-supplier=Digi-Key; ComponentLink2Description: https://datasheet.ciiva.com/2043/cd00001884-2043960.pdf?src-supplier=Digi-Key; ComponentLink3URL: https://datasheet.ciiva.com/2043/cd00001884-2043961.pdf?src-supplier=Digi-Key; ComponentLink3Description: https://datasheet.ciiva.com/2043/cd00001884-2043961.pdf?src-supplier=Digi-Key; ComponentLink4URL: https://datasheet.ciiva.com/3225/cd00001884-3225081.pdf?src-supplier=Avnet; ComponentLink4Description: https://datasheet.ciiva.com/3225/cd00001884-3225081.pdf?src-supplier=Avnet; ComponentLink5URL: https://datasheet.ciiva.com/2043/cd00001884-2043962.pdf?src-supplier=Digi-Key; ComponentLink5Description: https://datasheet.ciiva.com/2043/cd00001884-2043962.pdf?src-supplier=Digi-Key; ComponentLink6URL: https://datasheet.ciiva.com/1511/1880971-1511549.pdf?src-supplier=Element14; ComponentLink6Description: https://datasheet.ciiva.com/1511/1880971-1511549.pdf?src-supplier=Element14; ComponentLink7URL: https://datasheet.ciiva.com/1511/1880971-1511550.pdf?src-supplier=Element14; ComponentLink7Description: https://datasheet.ciiva.com/1511/1880971-1511550.pdf?src-supplier=Element14; ComponentLink8URL: https://datasheet.ciiva.com/16496/cd00001884-16496030.pdf?src-supplier=Future+Electronics; ComponentLink8Description: https://datasheet.ciiva.com/16496/cd00001884-16496030.pdf?src-supplier=Future+Electronics; Supplier Part Number 1: 497-3446-1-ND
footprint DPAK
pins: 1 ADJ/GND, 2 INPUT, 3 OUT

## LED GR 0603
designator D?, comment Forward Voltage: 2V  Color: Green  (hidden comment: 150060VS75000)
CRCW Thick Film Commodity Chip Resistor 0603 Size 5.1K Ohm 1% 0.1 W 100 ppm/K 2-Pin SMD Paper T/R; Manufacturer: Wurth Electronics; Luminous Intensity: 40mcd; Viewing Angle: 140°; Wavelength: 570nm; Lens Style: Clear,Rectangular; Forward Current: 30mA; Resistance: 5.1kR; Max Power Dissipation: 100mW; Temperature Coefficient: 100ppm/°C; Test Current: 20mA; Supplier 1: Digi-Key; Manufacturer Part Number: 150060VS75000; RoHS: Yes; Category: LEDs; Stock 1: 170555; Pricing 1: 1=0.14000, 50=0.13300, 100=0.11400, 500=0.10500, 1000=0.09900 (USD); Mount: Surface Mount; Case/Package: 0603; Number of Pins: 2; Case Code (Metric): 1608; Case Code (Imperial): 0603; Min Operating Temperature: -40°C; Max Operating Temperature: 85°C; Package Quantity: 1; Packaging: Tape and Reel; Dominant Wavelength: 570nm; Length: 1.6mm; Width: 0.8mm; Height: 0.7mm; REACH SVHC: Unknown; RoHS Compliant: Yes; ComponentLink1URL: https://datasheet.ciiva.com/29562/150060vs75000-29562919.pdf?src-supplier=Digi-Key; ComponentLink1Description: https://datasheet.ciiva.com/29562/150060vs75000-29562919.pdf?src-supplier=Digi-Key; Supplier Part Number 1: 732-4980-1-ND; Supplier 2: Digi-Key; Stock 2: 49532; Pricing 2: 1=0.10000, 10=0.03600, 100=0.01450, 1000=0.00652, 2500=0.00566, 5000=0.00468 (USD); Resistor Type: Thick Film; Tolerance: 1%; Number of Terminations: 2; ComponentLink2URL: http://www.vishay.com/docs/28773/crcwce3.pdf?src-supplier=Digi-Key; ComponentLink2Description: http://www.vishay.com/docs/28773/crcwce3.pdf?src-supplier=Digi-Key; Supplier Part Number 2: 541-CRCW06035K10FKEBCCT-ND; Weight: 0.025
footprint LED GR 0603
pins: 1, 2

## LED RED 0603
designator D?, comment Color: Red  Forward Voltage: 2V  (hidden comment: 150060RS75000)
WURTH ELEKTRONIK - 150060RS75000 - LED, Red, 625 nm, 2 V, 30 mA, 250 mcd RoHS Compliant: Yes; Manufacturer: Wurth Electronics; Viewing Angle: 140°; Lens Style: Clear,Rectangular; Luminous Intensity: 250mcd; Forward Current: 30mA; Wavelength: 625nm; Test Current: 20mA; Supplier 1: Digi-Key; Manufacturer Part Number: 150060RS75000; RoHS: Yes; Category: LEDs; Stock 1: 253591; Pricing 1: 1=0.14000, 50=0.13300, 100=0.12000, 500=0.11400, 1000=0.09900 (USD); Mount: Surface Mount; Case/Package: 0603; Case Code (Metric): 1608; Case Code (Imperial): 0603; Min Operating Temperature: -40°C; Max Operating Temperature: 85°C; Package Quantity: 1; Packaging: Cut Tape; Dominant Wavelength: 625nm; Length: 1.6mm; Width: 0.8mm; Height: 0.7mm; REACH SVHC: Unknown; RoHS Compliant: Yes; ComponentLink1URL: https://datasheet.ciiva.com/29563/150060rs75000-29563040.pdf?src-supplier=Digi-Key; ComponentLink1Description: https://datasheet.ciiva.com/29563/150060rs75000-29563040.pdf?src-supplier=Digi-Key; ComponentLink2URL: https://datasheet.ciiva.com/29279/759428-da-01-en-chipled-0603-w-kl-rot-150060rs75000-29279196.pdf?src-supplier=Conrad; ComponentLink2Description: https://datasheet.ciiva.com/29279/759428-da-01-en-chipled-0603-w-kl-rot-150060rs75000-29279196.pdf?src-supplier=Conrad; Supplier Part Number 1: 732-4978-1-ND; Weight: 0.0025
footprint LED RED 0603
pins: 1, 2

## LED YLW 0603
designator D?, comment Color: Yellow  (hidden comment: APTD1608LSYCK/J3-PF)
LED YELLOW CLEAR 2SMD; Manufacturer: Kingbright; Lens Color: Colorless; Luminous Intensity: 55mcd; Test Current: 2mA; Viewing Angle: 60°; Dominant Wavelength: 590nm; Forward Voltage: 1.85V; Supplier 1: Digi-Key; Manufacturer Part Number: APTD1608LSYCK/J3-PF; RoHS: Yes; Category: LEDs; Stock 1: 32340; Pricing 1: 1=0.58000, 10=0.38200, 100=0.25300, 1000=0.19532 (USD); Mount: Surface Mount; Case/Package: 0603; Case Code (Metric): 1608; Case Code (Imperial): 0603; Packaging: Tape and Reel; Lens Transparency: Clear; Length: 1.6mm; Width: 0.8mm; Height: 0.95mm; RoHS Compliant: No; ComponentLink1URL: http://www.mouser.com/ds/2/216/APTD1608LSYCK-J3-PF-535613.pdf?src-supplier=Mouser; ComponentLink1Description: http://www.mouser.com/ds/2/216/APTD1608LSYCK-J3-PF-535613.pdf?src-supplier=Mouser; ComponentLink2URL: http://www.kingbrightusa.com/images/catalog/SPEC/APTD1608LSYCK-J3-PF.pdf?src-supplier=Digi-Key; ComponentLink2Description: http://www.kingbrightusa.com/images/catalog/SPEC/APTD1608LSYCK-J3-PF.pdf?src-supplier=Digi-Key; Supplier Part Number 1: 754-1947-1-ND; Weight: 0.0025
footprint LED GR 0603
pins: 1, 2

## LM2596S-5.0/NOPB
designator REG?
Conv DC-DC 4.5V to 40V Inv/Step Down Single-Out 5V 3A 6-Pin(5+Tab) TO-263 Tube; Manufacturer: TI National Semiconductor; Efficiency: 80%; Number of Outputs: 1; Switching Frequency: 173kHz; Quiescent Current: 5mA; Output Type: Fixed; Supplier 1: Mouser; Manufacturer Part Number: LM2596S-5.0/NOPB; RoHS: Yes; Category: Power Supply Modules; Stock 1: 3519; Pricing 1: 1=7.15000, 10=6.46000, 50=6.16000, 100=5.34000, 1000=5.34000, 10000=5.34000 (USD); Mount: Surface Mount; Case/Package: TO-263; Number of Pins: 5; Weight: 0.25lb; Contact Plating: Tin,Matte; Min Operating Temperature: -40°C; Max Operating Temperature: 125°C; Min Input Voltage: 4.5V; Output Current: 3A; Output Voltage: 5V; Packaging: Rail/Tube; Max Output Current: 3A; Max Input Voltage: 40V; Package Quantity: 45; Nominal Output Voltage: 5V; Operating Supply Voltage: 40V; Length: 10.16mm; Width: 8.64mm; Height: 4.57mm; Radiation Hardening: No; REACH SVHC: No SVHC; Lead Free: Contains Lead; ComponentLink1URL: https://datasheet.ciiva.com/15112/getdatasheetpartid-112894-15112928.pdf?src-supplier=Verical; ComponentLink1Description: https://datasheet.ciiva.com/15112/getdatasheetpartid-112894-15112928.pdf?src-supplier=Verical; ComponentLink2URL: https://datasheet.ciiva.com/14150/jqlm2596x-xx-e-14150651.pdf?src-supplier=Distrelec; ComponentLink2Description: https://datasheet.ciiva.com/14150/jqlm2596x-xx-e-14150651.pdf?src-supplier=Distrelec; ComponentLink3URL: https://datasheet.ciiva.com/27050/836385-27050287.pdf?src-supplier=Jameco; ComponentLink3Description: https://datasheet.ciiva.com/27050/836385-27050287.pdf?src-supplier=Jameco; ComponentLink4URL: https://datasheet.ciiva.com/41457/001013813-da-01-en-ic-reg-buc-lm2596s-5-0-nopb-to-263-5-tid-41457757.pdf?src-supplier=Conrad; ComponentLink4Description: https://datasheet.ciiva.com/41457/001013813-da-01-en-ic-reg-buc-lm2596s-5-0-nopb-to-263-5-tid-41457757.pdf?src-supplier=Conrad; ComponentLink5URL: https://datasheet.ciiva.com/6596/lm2596-6596343.pdf?src-supplier=Digi-Key; ComponentLink5Description: https://datasheet.ciiva.com/6596/lm2596-6596343.pdf?src-supplier=Digi-Key; ComponentLink6URL: https://datasheet.ciiva.com/22669/1874590-22669463.pdf?src-supplier=Element14; ComponentLink6Description: https://datasheet.ciiva.com/22669/1874590-22669463.pdf?src-supplier=Element14; ComponentLink7URL: https://datasheet.ciiva.com/16536/lm2596-16536124.pdf?src-supplier=Avnet+Asia; ComponentLink7Description: https://datasheet.ciiva.com/16536/lm2596-16536124.pdf?src-supplier=Avnet+Asia; Supplier Part Number 1: 926-LM2596S-5.0/NOPB
footprint LM2596S-5.0/NOPB
pins: 1 VIN (power), 2 OUTPUT (power), 3 GROUND (power), 4 FEEDBACK (power), 5 ~{ON!/OFF} (power)

## MH_6.5MMC_4.3MMD
designator MH?  (value not drawn)  (no BOM)
Hole 6.5mm Diameter 5mm Drill NPTH
footprint MH_6.5MMC_4.3MMD
pins: 1